# Altium schematic symbol library Schlib1.SchLib: 2 symbols
Pins are listed as number, name and electrical type; pins without a type are passive.

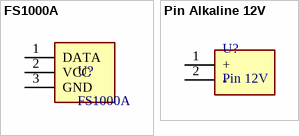
[diagram p0: symbols FS1000A to Pin Alkaline 12V]

## FS1000A
designator U?
footprint fs1000a
pins: 1 DATA, 2 VCC, 3 GND

## Pin Alkaline 12V
designator U?, comment Pin 12V
footprint pin_alkaline
pins: 1 +, 2 - "pin"